# Altium integrated library DWM-03-X-X-S-X.IntLib: 1 symbol
Pins are listed as number, name and electrical type; pins without a type are passive.

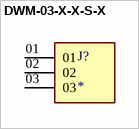
[diagram p0: symbol DWM-03-X-X-S-X]

## DWM-03-X-X-S-X
designator J?
3 Position Header Spacer Connector 0.050 (1.27mm) Gold Through Hole; MP: DWM-03-54-G-S-315; MF: Samtec; SnapEDA_Link: https://www.snapeda.com/parts/DWM-03-54-G-S-315/Samtec/view-part/?ref=snap; Purchase-URL: https://pricing.snapeda.com/search/part/DWM-03-54-G-S-315/?ref=eda; Value: *; Availability: In Stock; Check_prices: https://www.snapeda.com/parts/DWM-03-54-G-S-315/Samtec/view-part/?ref=eda; Package: None; Price: None
footprint SAMTEC_DWM-03-X-X-S-X
pins: 01, 02, 03